# Altium footprint library WE-GFH.PcbLib: 3 footprints
Each footprint in its own frame and in the unit in brackets; x right, y up, seen from the top. Pads: shape width x height; smd on the part's side, far side on the other; paste and mask are expansions set on the pad; w line width, h text height; cw(c..) or ccw(c..) is an arc to the next point about the centre after c.
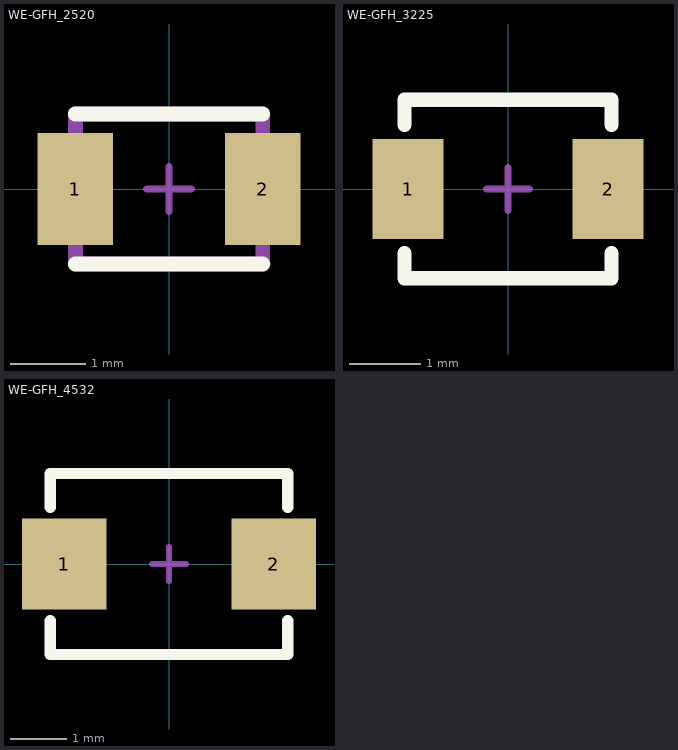
[diagram p0: the footprints below, top view; thin cyan lines are the x and y axes]

## WE-GFH_2520 [mm] "SMD High Frequence Inductor, size 2520"
height 1.8
pads (2):
  rect 1x1.5 smd: 1(-1.25,0) 2(1.25,0)
Top Overlay:
  lines w0.2: -1.25,-1 1.25,-1 ; -1.25,1 1.25,1
Mechanical 13:
  lines w0.2: -1.25,1 -1.25,1 ; -1.25,1 -1.25,-1 1.25,-1 ; -1.25,1 1.25,1 1.25,-1 ; 1.25,-1 1.25,-1
Mechanical 15:
  lines w0.1: -0.3,0 0.3,0 ; 0,-0.3 0,0.3
3D body "WE-GFH 2520.stp": height 1.8, standoff 0, extent -1.25,-1 1.25,1

## WE-GFH_3225 [mm] "SMD High Frequence Inductor, size 3225"
height 2.2
pads (2):
  rect 1x1.4 smd: 1(-1.4,0) 2(1.4,0)
Top Overlay:
  lines w0.2: -1.45,-0.9 -1.45,-1.25 1.45,-1.25 1.45,-0.9 ; -1.45,0.9 -1.45,1.25 1.45,1.25 1.45,0.9
Mechanical 15:
  lines w0.1: -0.3,0 0.3,0 ; 0,-0.3 0,0.3
3D body "IndGFH_3225.stp": height 2.22, standoff 0.02, extent -1.68,-1.25 1.68,1.25

## WE-GFH_4532 [mm] "SMD High Frequence Inductor, size 4532"
height 3.2
pads (2):
  rect 1.5x1.6 smd: 1(-1.85,0) 2(1.85,0)
Top Overlay:
  lines w0.2: -2.1,-1 -2.1,-1.6 2.1,-1.6 2.1,-1 ; -2.1,1 -2.1,1.6 2.1,1.6 2.1,1
Mechanical 15:
  lines w0.1: -0.3,0 0.3,0 ; 0,-0.3 0,0.3
3D body "IndGFH_4532.stp": height 3.22, standoff 0.02, extent -2.25,-1.6 2.25,1.6